# Altium footprint library Misc Connector Mains Power.PcbLib: 1 footprints
Each footprint in its own frame and in the unit in brackets; x right, y up, seen from the top. Pads: shape width x height; smd on the part's side, far side on the other; paste and mask are expansions set on the pad; w line width, h text height; cw(c..) or ccw(c..) is an arc to the next point about the centre after c.
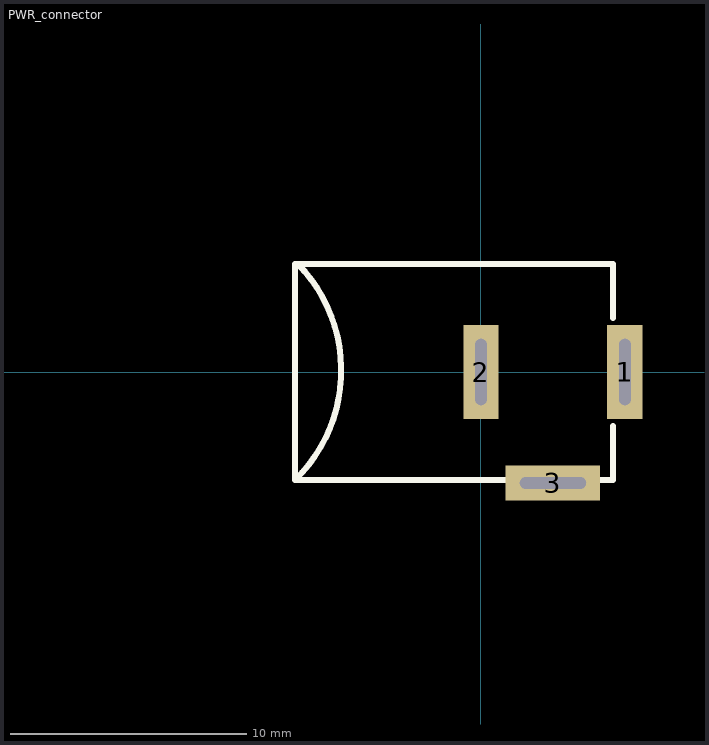
[diagram p0: the footprint, top view; thin cyan lines are the x and y axes]

## PWR_connector [mm] "低压直流电源插入接口"
pads (3):
  rect 1.5x4 hole 0.5 slot 2.8 at 90 deg: 1(6.096,0) 2(0,0)
  rect 4x1.5 hole 0.5 slot 2.8 at 0 deg: 3(3.048,-4.699)
Top Overlay:
  lines w0.254: -7.747,4.572 cw(c-12.383,0.063) -7.874,-4.572 ; 5.588,-2.286 5.588,-4.572 -7.874,-4.572 ; 5.588,2.286 5.588,4.572 -7.874,4.572 -7.874,-4.572